# Altium footprint library LED_3mm_TH.PcbLib: 1 footprints
Each footprint in its own frame and in the unit in brackets; x right, y up, seen from the top. Pads: shape width x height; smd on the part's side, far side on the other; paste and mask are expansions set on the pad; w line width, h text height; cw(c..) or ccw(c..) is an arc to the next point about the centre after c.
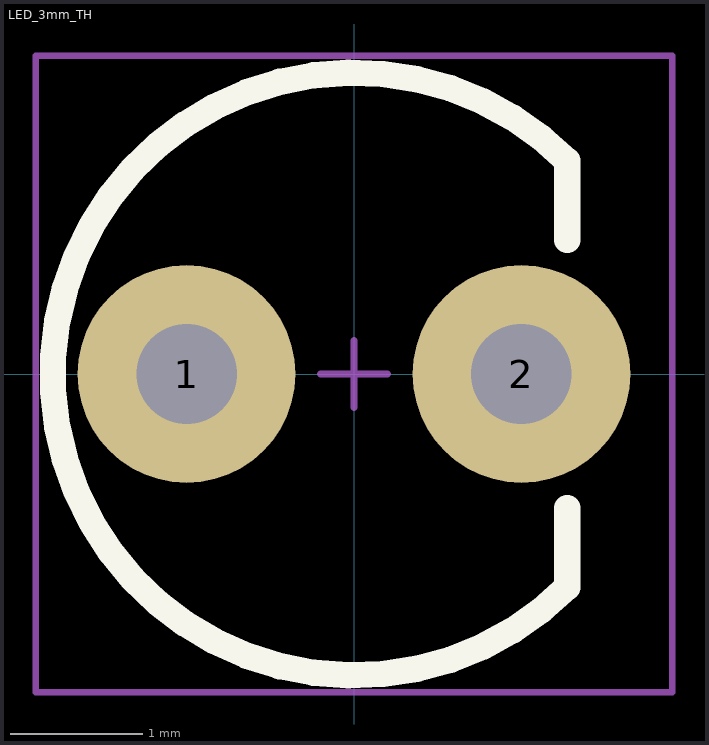
[diagram p0: the footprint, top view; thin cyan lines are the x and y axes]

## LED_3mm_TH [mil]
pads (2):
  round 65 hole 30: 1(-50,0) 2(50,0)
Top Overlay:
  lines w7.87: 63.64,-40 63.64,-63.64 cw(c0,0) 63.64,63.64 63.64,40
Mechanical 15:
  lines w1.97: -10,0 10,0 ; 0,-10 0,10 ; -95,-95 -95,95 95,95 95,-95 -95,-95
3D body "CircuitWorks-LED DIP 3MM.step": height 315.91, standoff -18.74, extent -74.8,-74.8 62.99,74.8